# Altium footprint library chips.PcbLib: 36 footprints (part 1 of 3)
Each footprint in its own frame and in the unit in brackets; x right, y up, seen from the top. Pads: shape width x height; smd on the part's side, far side on the other; paste and mask are expansions set on the pad; w line width, h text height; cw(c..) or ccw(c..) is an arc to the next point about the centre after c.
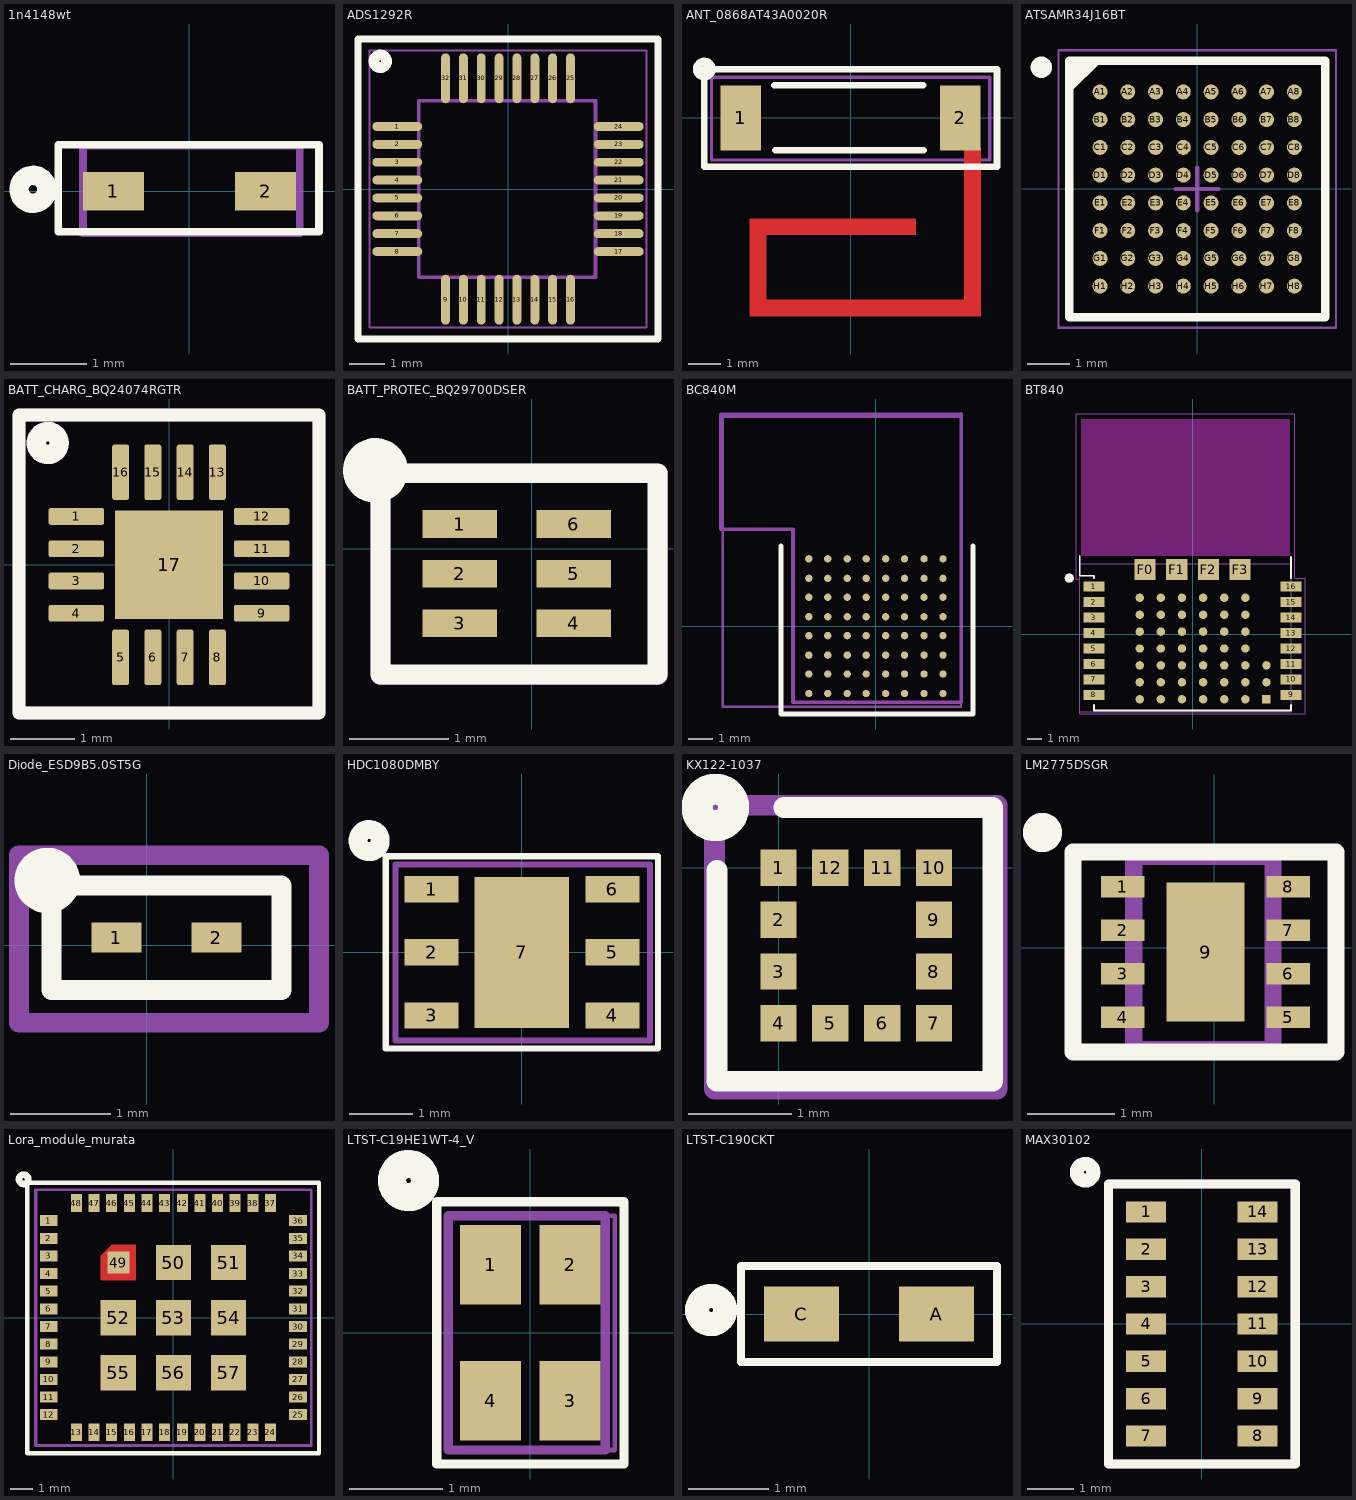
[diagram p0: the footprints below, top view; thin cyan lines are the x and y axes]

## 1n4148wt [mm] "SMD, 2-Leads, Body 1.2x0.8mm, Height 0.7mm"
height 0.7
pads (2):
  rect 0.8x0.5 smd: 1(-1,0) 2(1,0)
Top Overlay:
  circle w0.254: c-2.057,0.025 r0.183
  lines w0.1: -1.727,-0.533 -1.727,0.61 1.702,0.61 1.702,-0.533 -1.727,-0.533
Top Assembly:
  lines w0.1: -1.4,-0.55 1.45,-0.55 1.45,0.6 -1.4,0.6 -1.4,-0.55
  text ".Designator" at -1,-0.15 h0.5
3D body: height 0.71, standoff 0.01, extent -0.6,-0.4 0.6,0.4

## ADS1292R [mm] "QFP, 32-Leads, Body 5x5mm, Pitch 0.5mm, IPC High Density"
height 1.2
pads (32):
  oval 1.4x0.25 smd: 1(-3.1,1.75) 2(-3.1,1.25) 3(-3.1,0.75) 4(-3.1,0.25) 5(-3.1,-0.25) 6(-3.1,-0.75) 7(-3.1,-1.25) 8(-3.1,-1.75) 17(3.1,-1.75) 18(3.1,-1.25) 19(3.1,-0.75) 20(3.1,-0.25) 21(3.1,0.25) 22(3.1,0.75) 23(3.1,1.25) 24(3.1,1.75)
  oval 0.25x1.4 smd: 9(-1.75,-3.1) 10(-1.25,-3.1) 11(-0.75,-3.1) 12(-0.25,-3.1) 13(0.25,-3.1) 14(0.75,-3.1) 15(1.25,-3.1) 16(1.75,-3.1) 25(1.75,3.1) 26(1.25,3.1) 27(0.75,3.1) 28(0.25,3.1) 29(-0.25,3.1) 30(-0.75,3.1) 31(-1.25,3.1) 32(-1.75,3.1)
Top Overlay:
  circle w0.3: c-3.575,3.575 r0.177
  lines w0.2: -4.2,-4.2 -4.2,4.2 -4,4.2 4.2,4.2 4.2,-4.2 -4.2,-4.2
Top 3D Body:
  lines w0.05: -3.875,-3.875 -3.875,3.875 3.875,3.875 3.875,-3.875 -3.875,-3.875
Top Assembly:
  lines w0.1: -2.5,-2.475 2.45,-2.475 2.45,2.475 -2.5,2.475 -2.5,-2.475
  text ".Designator" at -1.275,-0.15 h0.89
3D body: height 1.2, standoff 0.05, extent -2.5,-2.5 2.5,2.5

## ANT_0868AT43A0020R [mm]
pads (2):
  rect 1.25x2 smd: 1(-3.375,0) 2(3.375,0)
Top Layer:
  region: -3.1,-3.6 -3.1,-3.1 2,-3.1 2,-3.6
  region: -3.1,-5.6 -3.1,-3.1 -2.6,-3.1 -2.6,-5.6
  region: -3.1,-6.1 -3.1,-5.6 4,-5.6 4,-6.1
  region: 3.5,-6.1 3.5,-0.9 4,-0.9 4,-6.1
Top Overlay:
  circle w0.254: c-4.5,1.499 r0.224
  lines w0.2: -2.35,1 2.225,1 ; -2.325,-1 2.25,-1 ; -4.5,-1.5 -4.5,1.499 4.5,1.499 4.5,-1.5 -4.5,-1.5
Top Assembly:
  lines w0.1: -4.275,-1.3 4.275,-1.3 4.275,1.25 -4.275,1.25 -4.275,-1.3
  text ".Designator" at -2,-0.35 h0.89
3D body: height 0.85, standoff -0.85, extent -3.675,0.725 -3.675,0.725
3D body: height 0.85, standoff -0.85, extent 0.95,-0.2 0.95,-0.2
3D body "User Library-0868AT43A0020.step": height 0.8, standoff 0, extent -3.55,-1 3.45,1

## ATSAMR34J16BT [mm] "IC RF TXRX+MCU 802.15.4 64TFBGA"
height 1.21
pads (64):
  round 0.35 smd: A1(-2.275,2.275) A2(-1.625,2.275) A3(-0.975,2.275) A4(-0.325,2.275) A5(0.325,2.275) A6(0.975,2.275) A7(1.625,2.275) A8(2.275,2.275) B1(-2.275,1.625) B2(-1.625,1.625) B3(-0.975,1.625) B4(-0.325,1.625) B5(0.325,1.625) B6(0.975,1.625) B7(1.625,1.625) B8(2.275,1.625) C1(-2.275,0.975) C2(-1.625,0.975) C3(-0.975,0.975) C4(-0.325,0.975) C5(0.325,0.975) C6(0.975,0.975) C7(1.625,0.975) C8(2.275,0.975) D1(-2.275,0.325) D2(-1.625,0.325) D3(-0.975,0.325) D4(-0.325,0.325) D5(0.325,0.325) D6(0.975,0.325) D7(1.625,0.325) D8(2.275,0.325) E1(-2.275,-0.325) E2(-1.625,-0.325) E3(-0.975,-0.325) E4(-0.325,-0.325) E5(0.325,-0.325) E6(0.975,-0.325) E7(1.625,-0.325) E8(2.275,-0.325) F1(-2.275,-0.975) F2(-1.625,-0.975) F3(-0.975,-0.975) F4(-0.325,-0.975) F5(0.325,-0.975) F6(0.975,-0.975) F7(1.625,-0.975) F8(2.275,-0.975) G1(-2.275,-1.625) G2(-1.625,-1.625) G3(-0.975,-1.625) G4(-0.325,-1.625) G5(0.325,-1.625) G6(0.975,-1.625) G7(1.625,-1.625) G8(2.275,-1.625) H1(-2.275,-2.275) H2(-1.625,-2.275) H3(-0.975,-2.275) H4(-0.325,-2.275) H5(0.325,-2.275) H6(0.975,-2.275) H7(1.625,-2.275) H8(2.275,-2.275)
Top Overlay:
  circle w0.25: c-3.65,2.85 r0.125
  region: -2.363,3 -3,2.363 -3,3
  lines w0.2: -3,2.363 -2.363,3 ; -3,-3 -3,3 3,3 3,-3 -3,-3
Top Assembly:
  lines w0.05: -3.25,-3.25 -3.25,3.25 3.25,3.25 3.25,-3.25 -3.25,-3.25
  lines w0.1: -0.5,0 0.5,0 ; 0,-0.5 0,0.5 ; -3,-3 -3,3 3,3 3,-3 -3,-3
  text ".Designator" at -1.625,-0.325 h1
3D body "BGA64C65P8X8_600X600X121.step": height 1.21, standoff 0, extent -3,-3 3,3

## BATT_CHARG_BQ24074RGTR [mm] "IC LI-ION CHARGE MGMT 16-QFN"
pads (17):
  rrect25% 0.86x0.26 smd: 1(-1.435,0.75) 2(-1.435,0.25) 3(-1.435,-0.25) 4(-1.435,-0.75) 9(1.435,-0.75) 10(1.435,-0.25) 11(1.435,0.25) 12(1.435,0.75)
  rrect25% 0.26x0.86 smd: 5(-0.75,-1.435) 6(-0.25,-1.435) 7(0.25,-1.435) 8(0.75,-1.435) 13(0.75,1.435) 14(0.25,1.435) 15(-0.25,1.435) 16(-0.75,1.435)
  rect 1.68x1.68 smd paste-2: 17(0,0)
Top Overlay:
  circle w0.3: c-1.88,1.888 r0.177
  lines w0.2: -2.325,-2.3 -2.325,2.325 2.325,2.325 2.325,-2.3 -2.325,-2.3
Top Assembly:
  lines w0.2: -2.325,-2.3 2.325,-2.3 2.325,2.325 -2.325,2.325 -2.325,-2.3
  text ".Designator" at -1.325,-0.45 h0.89
3D body "BQ24074RGTR.STEP": height 1, standoff 0, extent -1.5,-1.5 1.5,1.5

## BATT_PROTEC_BQ29700DSER [mm] "IC LITHIUM BATT PROTECT 6-SON"
pads (6):
  rect 0.75x0.28 smd: 1(-0.726,0.248) 2(-0.726,-0.252) 3(-0.726,-0.752) 4(0.424,-0.752) 5(0.424,-0.252) 6(0.424,0.248)
Top Overlay:
  circle w0.3: c-1.575,0.79 r0.177
  lines w0.2: -1.524,-1.27 -1.524,0.762 1.27,0.762 1.27,-1.27 -1.524,-1.27
Top Assembly:
  lines w0.2: -1.524,-1.275 -1.524,0.762 1.275,0.762 1.275,-1.275 -1.524,-1.275
  text ".Designator" at -1.025,-0.575 h0.89
3D body "DSE0006A.stp": height 0.77, standoff -0.03, extent -0.928,-1.004 0.572,0.496

## BC840M [mil]
pads (64):
  rrect100% 12x12 smd: A0(-110,110.5) A1(-110,78.5) A2(-110,47.5) A3(-110,15.5) A4(-110,-15.5) A5(-110,-47.5) A6(-110,-78.5) A7(-110,-110.5) B0(-79,110.5) B1(-79,78.5) B2(-79,47.5) B3(-79,15.5) B4(-79,-15.5) B5(-79,-47.5) B6(-79,-78.5) B7(-79,-110.5) C0(-47,110.5) C1(-47,78.5) C2(-47,47.5) C3(-47,15.5) C4(-47,-15.5) C5(-47,-47.5) C6(-47,-78.5) C7(-47,-110.5) D0(-16,110.5) D1(-16,78.5) D2(-16,47.5) D3(-16,15.5) D4(-16,-15.5) D5(-16,-47.5) D6(-16,-78.5) D7(-16,-110.5) E0(16,110.5) E1(16,78.5) E2(16,47.5) E3(16,15.5) E4(16,-15.5) E5(16,-47.5) E6(16,-78.5) E7(16,-110.5) F0(47,110.5) F1(47,78.5) F2(47,47.5) F3(47,15.5) F4(47,-15.5) F5(47,-47.5) F6(47,-78.5) F7(47,-110.5) G0(79,110.5) G1(79,78.5) G2(79,47.5) G3(79,15.5) G4(79,-15.5) G5(79,-47.5) G6(79,-78.5) G7(79,-110.5) H0(110,110.5) H1(110,78.5) H2(110,47.5) H3(110,15.5) H4(110,-15.5) H5(110,-47.5) H6(110,-78.5) H7(110,-110.5)
Top Overlay:
  lines w7.87: -155.69,131.54 -155.69,-144.06 159.28,-144.06 159.28,131.54
Top 3D Body:
  lines w5.91: -254.11,159.09 -254.11,347.61 140,348.07 140,-124.5 -136,-124.5 -136,159.09 -254.11,159.09
Top Assembly:
  lines w3.94: -251.15,-132.24 139.59,-132.24 139.59,343.15 -251.15,343.15 -251.15,-132.24
  text ".Designator" at -148.8,105.94 h35
3D body "bc832.stp": height 43.31, standoff -11.81, extent -153.71,-135.19 153.38,211.26

## BT840 [mm] "Bluetooth module nordic"
pads (65):
  rect 1.5x0.7 smd: 1(-7,3.4) 2(-7,2.3) 3(-7,1.2) 4(-7,0.1) 5(-7,-1) 6(-7,-2.1) 7(-7,-3.2) 8(-7,-4.3) 9(7,-4.3) 10(7,-3.2) 11(7,-2.1) 12(7,-1) 13(7,0.1) 14(7,1.2) 15(7,2.3) 16(7,3.4)
  round 0.6 smd: A0(-2.25,2.6) A1(-2.25,1.4) A2(-2.25,0.2) A3(-2.25,-1) A4(-2.25,-2.2) A5(-2.25,-3.4) A6(-2.25,-4.6) B0(-0.75,2.6) B1(-0.75,1.4) B2(-0.75,0.2) B3(-0.75,-1) B4(-0.75,-2.2) B5(-0.75,-3.4) B6(-0.75,-4.6) C0(0.75,2.6) C1(0.75,1.4) C2(0.75,0.2) C3(0.75,-1) C4(0.75,-2.2) C5(0.75,-3.4) C6(0.75,-4.6) D0(2.25,2.6) D1(2.25,1.4) D2(2.25,0.2) D3(2.25,-1) D4(2.25,-2.2) D5(2.25,-3.4) D6(2.25,-4.6) E0(3.75,2.6) E1(3.75,1.4) E2(3.75,0.2) E3(3.75,-1) E4(3.75,-2.2) E5(3.75,-3.4) E6(3.75,-4.6) F4(5.25,-2.2) F5(5.25,-3.4) Z0(-3.75,2.6) Z1(-3.75,1.4) Z2(-3.75,0.2) Z3(-3.75,-1) Z4(-3.75,-2.2) Z5(-3.75,-3.4) Z6(-3.75,-4.6)
  rect 1.5x1.5 smd: F0(-3.37,4.6) F1(-1.12,4.6) F2(1.13,4.6) F3(3.38,4.6)
  rect 0.6x0.6 smd: F6(5.25,-4.6)
Top Overlay:
  circle w0.3: c-8.75,4 r0.177
  lines w0.127: -8,5.59 -8,4.17 -7,4.17 -7,3.99 ; -7,-4.99 -7,-5.4 7,-5.4 7,-4.99 ; 7,3.99 7,5.5
Keep-Out Layer:
  region: -7.906,15.29 6.9,15.29 6.9,5.59 -7.906,5.59
  region: -7.906,15.29 6.9,15.29 6.9,5.59 -7.906,5.59
  region: -7.906,15.29 6.9,15.29 6.9,5.59 -7.906,5.59
  region: -7.906,15.29 6.9,15.29 6.9,5.59 -7.906,5.59
  region: -7.906,15.29 6.9,15.29 6.9,5.59 -7.906,5.59
  region: -7.906,15.29 6.9,15.29 6.9,5.59 -7.906,5.59
Top 3D Body:
  lines w0.05: -8.25,3.92 -8,3.92 -8,-5.65 8,-5.65 8,4 7.25,4 7.25,15.65 -8.25,15.65 -8.25,3.92
Top Assembly:
  lines w0.051: -8,-5.5 -8,5 7,5 7,-5.5 -8,-5.5
  text ".Designator" at -4.325,-0.4 h0.89
3D body "BT840F--3DModel-STEP-56544.STEP": height 1.9, standoff 0, extent -8,-5.4 7,15.4

## Diode_ESD9B5.0ST5G [mm] "TVS DIODE 5V SOD923"
pads (2):
  rect 0.5x0.3 smd: 1(-0.3,0.075) 2(0.7,0.075)
Top Overlay:
  circle w0.3: c-0.992,0.648 r0.177
  lines w0.2: -0.95,-0.45 1.35,-0.45 1.35,0.6 -0.95,0.6 -0.95,-0.45
Top Assembly:
  lines w0.2: -1.275,-0.775 -1.275,0.9 1.725,0.9 1.725,-0.775 -1.275,-0.775
  text ".Designator" at -0.95,-0.475 h0.89

## HDC1080DMBY [mm] "Humidity Temp sensor"
pads (7):
  rect 0.86x0.42 smd: 1(-1.435,1) 2(-1.435,0) 3(-1.435,-1) 4(1.435,-1) 5(1.435,0) 6(1.435,1)
  rect 1.5x2.4 smd: 7(0,0)
Top Overlay:
  circle w0.3: c-2.425,1.775 r0.177
  lines w0.102: -2.159,-1.524 -2.159,1.524 2.159,1.524 2.159,-1.524 -2.159,-1.524
Top Paste:
  region: 0.485,-1.021 -0.485,-1.021 -0.485,-0.09 0.485,-0.09
  region: -0.486,1.02 0.485,1.02 0.485,0.09 -0.486,0.09
Top Assembly:
  lines w0.1: -2.007,-1.397 2.032,-1.397 2.032,1.397 -2.007,1.397 -2.007,-1.397
  text ".Designator" at -1.353,-0.369 h1.02
3D body "HDC2080DMBR--3DModel-STEP-56544.STEP": height 0.78, standoff -0.02, extent -1.5,-1.5 1.5,1.5

## KX122-1037 [mm]
pads (12):
  rect 0.35x0.35 smd: 1(0,0) 2(0,-0.5) 3(0,-1) 4(0,-1.5) 5(0.5,-1.5) 6(1,-1.5) 7(1.5,-1.5) 8(1.5,-1) 9(1.5,-0.5) 10(1.5,0) 11(1,0) 12(0.5,0)
Top Overlay:
  circle w0.3: c-0.61,0.584 r0.177
  lines w0.2: -0.594,-0.025 -0.594,-2.059 2.067,-2.059 2.067,0.582 0.051,0.582
Top Assembly:
  lines w0.2: -0.618,-2.134 2.108,-2.134 2.108,0.603 -0.618,0.603 -0.618,-2.134
  text ".Designator" at -0.178,-1.168 h0.89
3D body "User Library-lga-2x2x0_9.step": height 0.95, standoff 0, extent -0.238,-1.762 1.762,0.238

## LM2775DSGR [mm]
pads (9):
  rect 0.5x0.25 smd paste+0 mask+0.051: 1(-1.05,0.7) 2(-1.05,0.2) 3(-1.05,-0.3) 4(-1.05,-0.8) 5(0.85,-0.8) 6(0.85,-0.3) 7(0.85,0.2) 8(0.85,0.7)
  rect 0.9x1.6 smd paste-0.45 mask+0.051: 9(-0.1,-0.05)
Top Overlay:
  circle w0.3: c-1.975,1.325 r0.075
  lines w0.2: 1.4,-1.2 -1.625,-1.2 -1.625,1.1 1.4,1.1 1.4,-1.175
Top Assembly:
  lines w0.2: -0.925,-1.175 0.675,-1.175 0.675,1.05 -0.925,1.05 -0.925,-1.175
  text ".Designator" at 0.25,-0.95 h0.89
3D body "DSG0008A.stp": height 0.77, standoff 0, extent -1.127,-1.051 0.873,0.949

## Lora_module_murata [mil]
pads (57):
  rect 31.5x19.69 smd: 1(-222.44,173.23) 2(-222.44,141.73) 3(-222.44,110.24) 4(-222.44,78.74) 5(-222.44,47.24) 6(-222.44,15.75) 7(-222.44,-15.75) 8(-222.44,-47.24) 9(-222.44,-78.74) 10(-222.44,-110.24) 11(-222.44,-141.73) 12(-222.44,-173.23) 25(222.44,-173.23) 26(222.44,-141.73) 27(222.44,-110.24) 28(222.44,-78.74) 29(222.44,-47.24) 30(222.44,-15.75) 31(222.44,15.75) 32(222.44,47.24) 33(222.44,78.74) 34(222.44,110.24) 35(222.44,141.73) 36(222.44,173.23)
  rect 19.69x31.5 smd: 13(-173.23,-204.72) 14(-141.73,-204.72) 15(-110.24,-204.72) 16(-78.74,-204.72) 17(-47.24,-204.72) 18(-15.75,-204.72) 19(15.75,-204.72) 20(47.24,-204.72) 21(78.74,-204.72) 22(110.24,-204.72) 23(141.73,-204.72) 24(173.23,-204.72) 37(173.23,204.72) 38(141.73,204.72) 39(110.24,204.72) 40(78.74,204.72) 41(47.24,204.72) 42(15.75,204.72) 43(-15.75,204.72) 44(-47.24,204.72) 45(-78.74,204.72) 46(-110.24,204.72) 47(-141.73,204.72) 48(-173.23,204.72)
  rect 39.37x39.37 smd: 49(-98.43,98.43)
  rect 62.99x62.99 smd: 50(0,98.43) 51(98.43,98.43) 52(-98.43,0) 53(0,0) 54(98.43,0) 55(-98.43,-98.43) 56(0,-98.43) 57(98.43,-98.43)
Top Layer:
  region: -66.93,66.93 -66.93,129.92 -110.24,129.92 -129.92,110.24 -129.92,66.93
  region: -48.23,64.96 -38.39,64.96 38.39,64.96 48.23,64.96
Top Overlay:
  circle w11.81: c-267.44,247.05 r8.28
  lines w7.87: -260.83,-242.13 259.84,-242.13 259.84,241.14 -260.83,241.14 -260.83,-242.13
Top Paste:
  region: -66.93,66.93 -66.93,129.92 -110.24,129.92 -129.92,110.24 -129.92,66.93
Top Solder:
  region: -133.86,62.99 -62.99,62.99 -62.99,133.86 -114.17,133.86 -133.86,114.17
  region: -48.23,64.96 -38.39,64.96 38.39,64.96 48.23,64.96
Top 3D Body:
  lines w5: -246.06,-228.35 -246.06,228.35 246.06,228.35 246.06,-228.35 -246.06,-228.35
Top Assembly:
  lines w3.94: -245.08,-228.35 246.06,-228.35 246.06,228.34 -245.08,228.34 -245.08,-228.35
  text ".Designator" at -146.65,1.97 h59.06
3D body "User Library-CMWX1ZZABZ.step": height 69.29, standoff 0, extent -245.08,-228.74 247.05,227.95

## LTST-C19HE1WT-4_V [mm] "SMD, 4-Leads, Body 1.6x1.6mm, Pitch 0.85mm"
height 0.35
pads (4):
  rect 0.65x0.85 smd: 1(-0.425,0.725) 2(0.425,0.725) 3(0.425,-0.725) 4(-0.425,-0.725)
Top Overlay:
  circle w0.3: c-1.3,1.625 r0.177
  lines w0.1: -1,-1.4 -1,1.4 1,1.4 1,-1.4 -1,-1.4
Top 3D Body:
  lines w0.05: -0.9,-1.25 -0.9,1.25 0.9,1.25 0.9,-1.25 -0.9,-1.25
Top Assembly:
  lines w0.1: -0.875,-1.25 -0.875,1.25 0.8,1.25 0.8,-1.25 -0.875,-1.25
  text ".Designator" at 0.225,-0.725 h0.5
3D body: height 0.35, standoff 0.18, extent -0.8,-0.575 0.8,0.575
3D body: height 0.18, standoff 0, extent -0.8,-0.8 0.8,0.8

## LTST-C190CKT [mm] "LED RED 0603"
pads (2):
  rect 0.94x0.69 smd: A(0.845,0) C(-0.845,0)
Top Overlay:
  circle w0.3: c-1.975,0.05 r0.177
  lines w0.1: -1.6,-0.6 -1.6,0.6 1.6,0.6 1.6,-0.6 -1.6,-0.6
Top Assembly:
  lines w0.1: -1.6,-0.6 1.6,-0.6 1.6,0.6 -1.6,0.6 -1.6,-0.6
  text ".Designator" at -1.3,-0.225 h0.5
3D body "User Library-led0603_RED-1.STEP": height 0.9, standoff 0, extent -0.85,-0.45 0.85,0.45

## MAX30102 [mil] "Optical HR / SPO2 sensor"
pads (14):
  rect 34x18 smd paste+0 mask+0: 1(-47,94.49) 2(-47,62.99) 3(-47,31.5) 4(-47,0) 5(-47,-31.5) 6(-47,-62.99) 7(-47,-94.49) 8(47,-94.49) 9(47,-62.99) 10(47,-31.5) 11(47,0) 12(47,31.5) 13(47,62.99) 14(47,94.49)
Top Overlay:
  circle w11.81: c-98.43,127.95 r6.96
  lines w7.87: -78.74,-118.11 78.74,-118.11 78.74,118.11 -78.74,118.11 -78.74,-118.11
Top Assembly:
  lines w7.87: -78.74,-118.11 78.74,-118.11 78.74,118.11 -78.74,118.11 -78.74,-118.11
  text ".Designator" at 9.84,-78.74 h35
3D body "21-1048F_F143A51.step": height 65.12, standoff 0, extent -62,-109.99 62.01,110.01